# EAGLE library part AD73311 (library analog-devices)
CODEC Low Cost, Low Power CMOS General Purpose Analog Front End
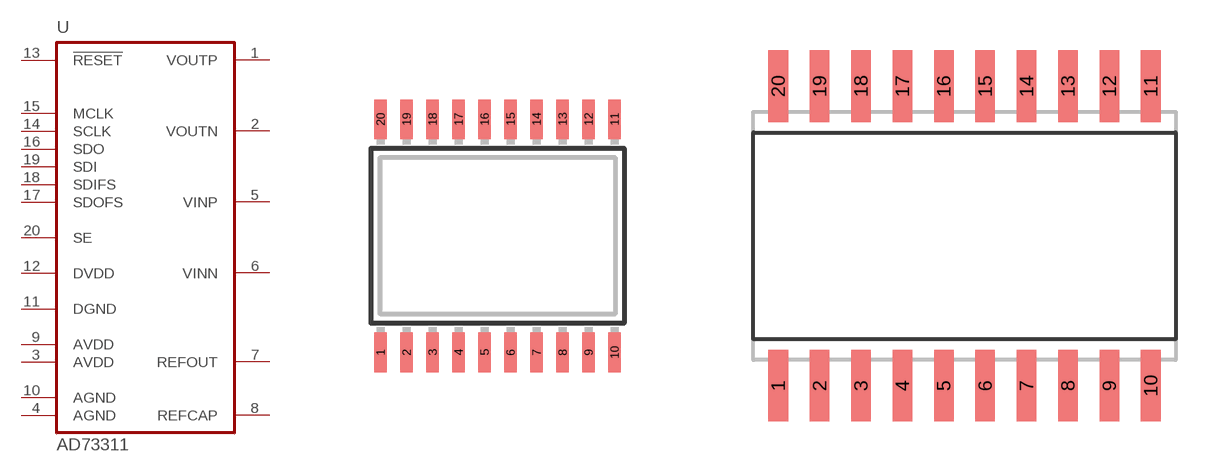
[diagram p36: symbol with the pads of TSSOP20; footprints TSSOP20, SO20W]

Designator prefix U

## AD73311ARU (P1I: o), AD73311LARU (P1I: o)  [TSSOP20]
1  VOUTP
2  VOUTN
3  AVDD  pwr
4  AGND  pwr
5  VINP  in
6  VINN  in
7  REFOUT  out
8  REFCAP  in
9  AVDD  pwr
10  AGND  pwr
11  DGND  pwr
12  DVDD  pwr
13  !RESET!  in
14  SCLK  out
15  MCLK  in
16  SDO
17  SDOFS  out
18  SDIFS  in
19  SDI  in
20  SE  in

## AD73311AR (P1I: o), AD73311LAR (P1I: o)  [SO20W]
Pads as for TSSOP20

## Footprint TSSOP20 (pad centres in mm)
Thin Shrink Small Outline Plastic 20
smd 0.305 x 0.991: 1 -2.925,-2.918; 2 -2.275,-2.918; 3 -1.625,-2.918; 4 -0.975,-2.918; 5 -0.325,-2.918; 6 0.325,-2.918; 7 0.975,-2.918; 8 1.625,-2.918; 9 2.275,-2.918; 10 2.925,-2.918; 11 2.925,2.918; 12 2.275,2.918; 13 1.625,2.918; 14 0.975,2.918; 15 0.325,2.918; 16 -0.325,2.918; 17 -0.975,2.918; 18 -1.625,2.918; 19 -2.275,2.918; 20 -2.925,2.918

## Footprint SO20W (pad centres in mm)
SMALL OUTLINE INTEGRATED CIRCUIT wide body 7.5 mm/JEDEC MS-013AC
smd 0.6 x 2.2: 1 -5.715,-4.6; 2 -4.445,-4.6; 3 -3.175,-4.6; 4 -1.905,-4.6; 5 -0.635,-4.6; 6 0.635,-4.6; 7 1.905,-4.6; 8 3.175,-4.6; 9 4.445,-4.6; 10 5.715,-4.6; 11 5.715,4.6; 12 4.445,4.6; 13 3.175,4.6; 14 1.905,4.6; 15 0.635,4.6; 16 -0.635,4.6; 17 -1.905,4.6; 18 -3.175,4.6; 19 -4.445,4.6; 20 -5.715,4.6